# Altium integrated library ST Microcontroller 8-Bit.IntLib: 1326 symbols (part 22 of 45)
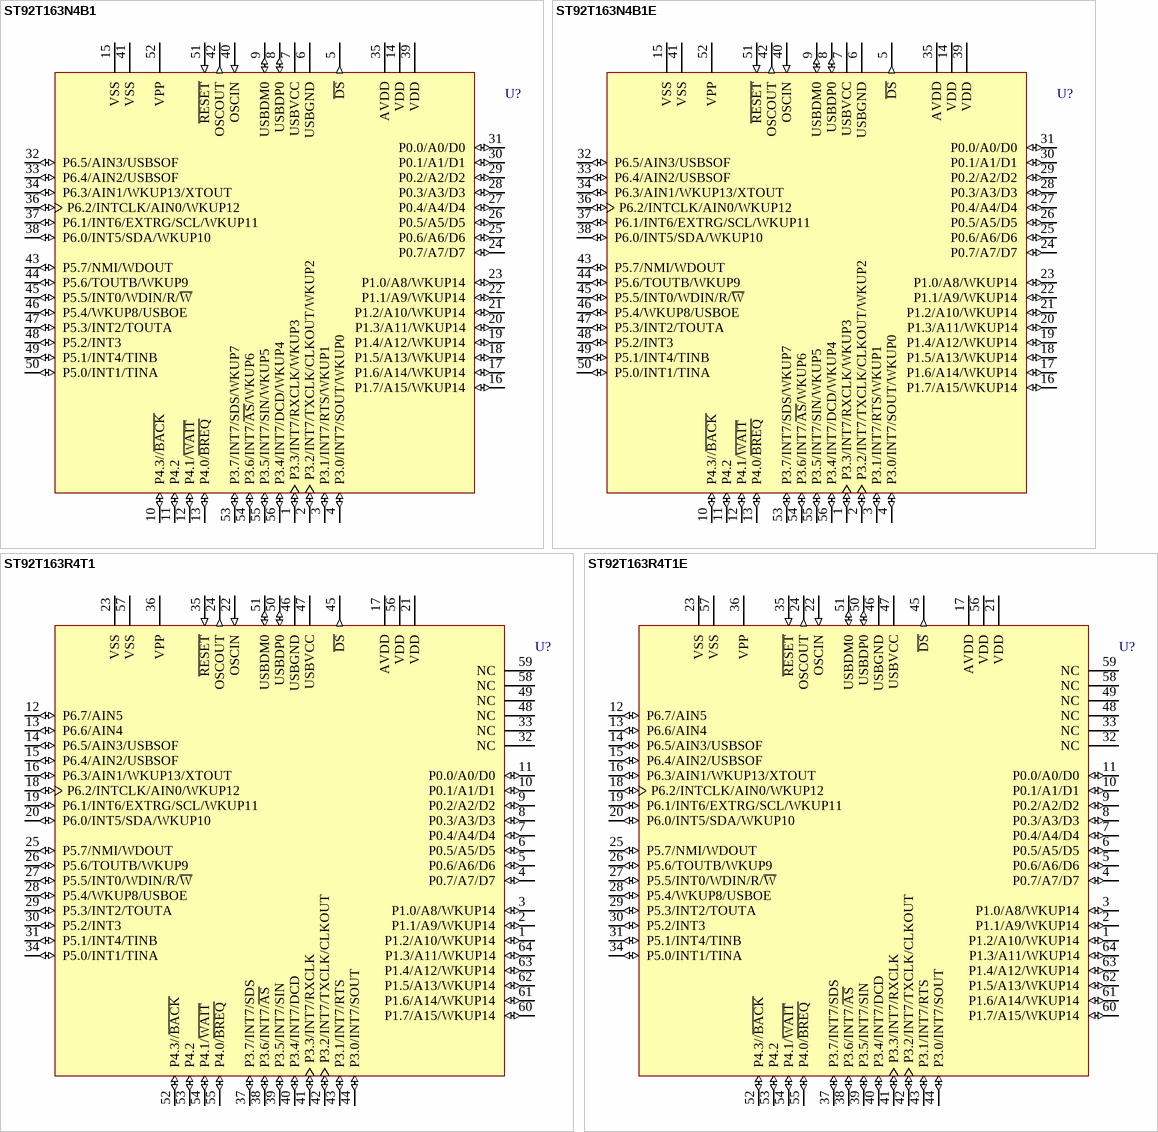
[diagram p188: symbols ST92T163N4B1 to ST92T163R4T1E]

## ST92T163R4T1
designator U?
8/16-Bit MCU with 20k OTP, 2k RAM, Full-Speed USB with 16 Endpoints, I²C, SCI and MFT, 64-Pin TQFP, Normal Mode; Published: 26-May-2004; LatestRevisionDate: 13-Apr-2006; LatestRevisionNote: IPC-7351 Footprint Added.; DatasheetVersion: rev2.4, Jan-2002; PackageVersion: rev2.4, Jan-2002; PackageReference: TQFP64-0.8; Publisher: Altium Limited; PackageDescription: 64-Pin Thin Quad Flat Pack 0.8 mm Pitch; ComponentLink1Description: Manufacturer Link; ComponentLink1URL: http://www.st.com/; ComponentLink2Description: Datasheet; ComponentLink2URL: http://www.st.com/stonline/products/literature/ds/5521/st92163r4.pdf
footprint TQFP64-0.8_N (Thin QFP, 64-Leads, Body 14x14mm, Pitch 0.8mm, IPC Medium Density)
footprint TQFP64-0.8_L (Thin QFP, 64-Leads, Body 14x14mm, Pitch 0.8mm, IPC High Density)
footprint TQFP64-0.8_M (Thin QFP, 64-Leads, Body 14x14mm, Pitch 0.8mm, IPC Low Density)
3D model ST92T163-TQFP64-0_8 (64-Pin Thin Quad Flat Pack 0.8 mm Pitch)
pins: 1 P1.2/A10/WKUP14 (io), 2 P1.1/A9/WKUP14 (io), 3 P1.0/A8/WKUP14 (io), 4 P0.7/A7/D7 (io), 5 P0.6/A6/D6 (io), 6 P0.5/A5/D5 (io), 7 P0.4/A4/D4 (io), 8 P0.3/A3/D3 (io), 9 P0.2/A2/D2 (io), 10 P0.1/A1/D1 (io), 11 P0.0/A0/D0 (io), 12 P6.7/AIN5 (io), 13 P6.6/AIN4 (io), 14 P6.5/AIN3/USBSOF (io), 15 P6.4/AIN2/USBSOF (io), 16 P6.3/AIN1/WKUP13/XTOUT (io), 17 AVDD (power), 18 P6.2/INTCLK/AIN0/WKUP12 (io), 19 P6.1/INT6/EXTRG/SCL/WKUP11 (io), 20 P6.0/INT5/SDA/WKUP10 (io), 21 VDD (power), 22 OSCIN (in), 23 VSS (power), 24 OSCOUT (out), 25 P5.7/NMI/WDOUT (io), 26 P5.6/TOUTB/WKUP9 (io), 27 P5.5/INT0/WDIN/R/~{W} (io), 28 P5.4/WKUP8/USBOE (io), 29 P5.3/INT2/TOUTA (io), 30 P5.2/INT3 (io), 31 P5.1/INT4/TINB (io), 32 NC, 33 NC, 34 P5.0/INT1/TINA (io), 35 ~{RESET} (in), 36 VPP (power), 37 P3.7/INT7/SDS (io), 38 P3.6/INT7/~{AS} (io), 39 P3.5/INT7/SIN (io), 40 P3.4/INT7/DCD (io), 41 P3.3/INT7/RXCLK (io), 42 P3.2/INT7/TXCLK/CLKOUT (io), 43 P3.1/INT7/RTS (io), 44 P3.0/INT7/SOUT (io), 45 ~{DS} (out), 46 USBGND (power), 47 USBVCC (power), 48 NC, 49 NC, 50 USBDP0 (io), 51 USBDM0 (io), 52 P4.3//~{BACK} (io), 53 P4.2 (io), 54 P4.1/~{WAIT} (io), 55 P4.0/~{BREQ} (io), 56 VDD (power), 57 VSS (power), 58 NC, 59 NC, 60 P1.7/A15/WKUP14 (io), 61 P1.6/A14/WKUP14 (io), 62 P1.5/A13/WKUP14 (io), 63 P1.4/A12/WKUP14 (io), 64 P1.3/A11/WKUP14 (io)

## ST92T163R4T1E
designator U?
8/16-Bit MCU with 20k OTP, 2k RAM, Full-Speed USB with 16 Endpoints, I²C, SCI and MFT, 64-Pin TQFP, Normal Mode; Published: 26-May-2004; LatestRevisionDate: 13-Apr-2006; LatestRevisionNote: IPC-7351 Footprint Added.; DatasheetVersion: rev2.4, Jan-2002; PackageVersion: rev2.4, Jan-2002; PackageReference: TQFP64-0.8; Publisher: Altium Limited; PackageDescription: 64-Pin Thin Quad Flat Pack 0.8 mm Pitch; ComponentLink1Description: Manufacturer Link; ComponentLink1URL: http://www.st.com/; ComponentLink2Description: Datasheet; ComponentLink2URL: http://www.st.com/stonline/products/literature/ds/5521/st92163r4.pdf
footprint TQFP64-0.8_N (Thin QFP, 64-Leads, Body 14x14mm, Pitch 0.8mm, IPC Medium Density)
footprint TQFP64-0.8_L (Thin QFP, 64-Leads, Body 14x14mm, Pitch 0.8mm, IPC High Density)
footprint TQFP64-0.8_M (Thin QFP, 64-Leads, Body 14x14mm, Pitch 0.8mm, IPC Low Density)
3D model ST92T163-TQFP64-0_8 (64-Pin Thin Quad Flat Pack 0.8 mm Pitch)
pins: 1 P1.2/A10/WKUP14 (io), 2 P1.1/A9/WKUP14 (io), 3 P1.0/A8/WKUP14 (io), 4 P0.7/A7/D7 (io), 5 P0.6/A6/D6 (io), 6 P0.5/A5/D5 (io), 7 P0.4/A4/D4 (io), 8 P0.3/A3/D3 (io), 9 P0.2/A2/D2 (io), 10 P0.1/A1/D1 (io), 11 P0.0/A0/D0 (io), 12 P6.7/AIN5 (io), 13 P6.6/AIN4 (io), 14 P6.5/AIN3/USBSOF (io), 15 P6.4/AIN2/USBSOF (io), 16 P6.3/AIN1/WKUP13/XTOUT (io), 17 AVDD (power), 18 P6.2/INTCLK/AIN0/WKUP12 (io), 19 P6.1/INT6/EXTRG/SCL/WKUP11 (io), 20 P6.0/INT5/SDA/WKUP10 (io), 21 VDD (power), 22 OSCIN (in), 23 VSS (power), 24 OSCOUT (out), 25 P5.7/NMI/WDOUT (io), 26 P5.6/TOUTB/WKUP9 (io), 27 P5.5/INT0/WDIN/R/~{W} (io), 28 P5.4/WKUP8/USBOE (io), 29 P5.3/INT2/TOUTA (io), 30 P5.2/INT3 (io), 31 P5.1/INT4/TINB (io), 32 NC, 33 NC, 34 P5.0/INT1/TINA (io), 35 ~{RESET} (in), 36 VPP (power), 37 P3.7/INT7/SDS (io), 38 P3.6/INT7/~{AS} (io), 39 P3.5/INT7/SIN (io), 40 P3.4/INT7/DCD (io), 41 P3.3/INT7/RXCLK (io), 42 P3.2/INT7/TXCLK/CLKOUT (io), 43 P3.1/INT7/RTS (io), 44 P3.0/INT7/SOUT (io), 45 ~{DS} (out), 46 USBGND (power), 47 USBVCC (power), 48 NC, 49 NC, 50 USBDP0 (io), 51 USBDM0 (io), 52 P4.3//~{BACK} (io), 53 P4.2 (io), 54 P4.1/~{WAIT} (io), 55 P4.0/~{BREQ} (io), 56 VDD (power), 57 VSS (power), 58 NC, 59 NC, 60 P1.7/A15/WKUP14 (io), 61 P1.6/A14/WKUP14 (io), 62 P1.5/A13/WKUP14 (io), 63 P1.4/A12/WKUP14 (io), 64 P1.3/A11/WKUP14 (io)

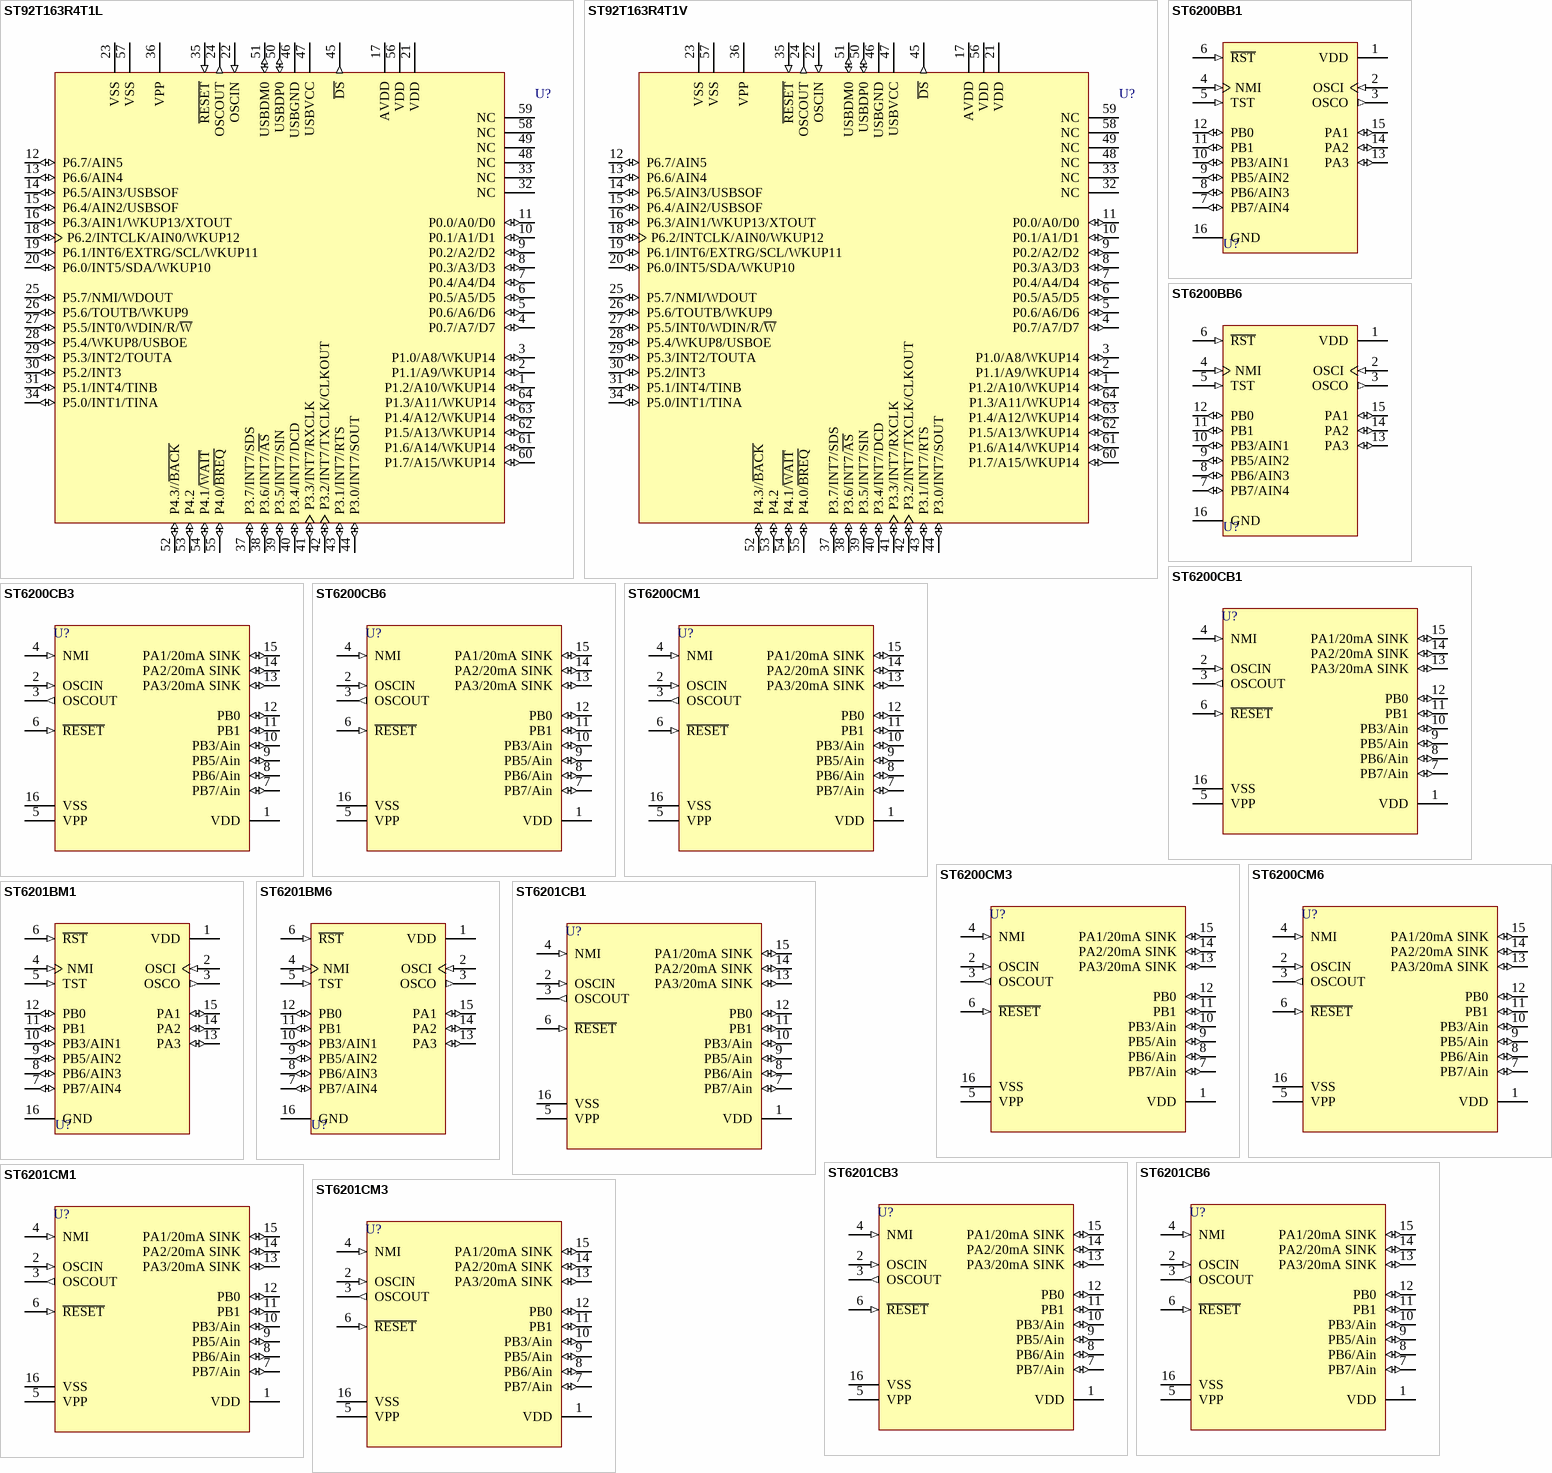
[diagram p77: symbols ST92T163R4T1L to ST6201CM3]

## ST92T163R4T1L
designator U?
8/16-Bit MCU with 20k OTP, 2k RAM, Full-Speed USB with 16 Endpoints, I²C, SCI and MFT, 64-Pin TQFP, Low Voltage Mode; Published: 26-May-2004; LatestRevisionDate: 13-Apr-2006; LatestRevisionNote: IPC-7351 Footprint Added.; DatasheetVersion: rev2.4, Jan-2002; PackageVersion: rev2.4, Jan-2002; PackageReference: TQFP64-0.8; Publisher: Altium Limited; PackageDescription: 64-Pin Thin Quad Flat Pack 0.8 mm Pitch; ComponentLink1Description: Manufacturer Link; ComponentLink1URL: http://www.st.com/; ComponentLink2Description: Datasheet; ComponentLink2URL: http://www.st.com/stonline/products/literature/ds/5521/st92163r4.pdf
footprint TQFP64-0.8_N (Thin QFP, 64-Leads, Body 14x14mm, Pitch 0.8mm, IPC Medium Density)
footprint TQFP64-0.8_L (Thin QFP, 64-Leads, Body 14x14mm, Pitch 0.8mm, IPC High Density)
footprint TQFP64-0.8_M (Thin QFP, 64-Leads, Body 14x14mm, Pitch 0.8mm, IPC Low Density)
3D model ST92T163-TQFP64-0_8 (64-Pin Thin Quad Flat Pack 0.8 mm Pitch)
pins: 1 P1.2/A10/WKUP14 (io), 2 P1.1/A9/WKUP14 (io), 3 P1.0/A8/WKUP14 (io), 4 P0.7/A7/D7 (io), 5 P0.6/A6/D6 (io), 6 P0.5/A5/D5 (io), 7 P0.4/A4/D4 (io), 8 P0.3/A3/D3 (io), 9 P0.2/A2/D2 (io), 10 P0.1/A1/D1 (io), 11 P0.0/A0/D0 (io), 12 P6.7/AIN5 (io), 13 P6.6/AIN4 (io), 14 P6.5/AIN3/USBSOF (io), 15 P6.4/AIN2/USBSOF (io), 16 P6.3/AIN1/WKUP13/XTOUT (io), 17 AVDD (power), 18 P6.2/INTCLK/AIN0/WKUP12 (io), 19 P6.1/INT6/EXTRG/SCL/WKUP11 (io), 20 P6.0/INT5/SDA/WKUP10 (io), 21 VDD (power), 22 OSCIN (in), 23 VSS (power), 24 OSCOUT (out), 25 P5.7/NMI/WDOUT (io), 26 P5.6/TOUTB/WKUP9 (io), 27 P5.5/INT0/WDIN/R/~{W} (io), 28 P5.4/WKUP8/USBOE (io), 29 P5.3/INT2/TOUTA (io), 30 P5.2/INT3 (io), 31 P5.1/INT4/TINB (io), 32 NC, 33 NC, 34 P5.0/INT1/TINA (io), 35 ~{RESET} (in), 36 VPP (power), 37 P3.7/INT7/SDS (io), 38 P3.6/INT7/~{AS} (io), 39 P3.5/INT7/SIN (io), 40 P3.4/INT7/DCD (io), 41 P3.3/INT7/RXCLK (io), 42 P3.2/INT7/TXCLK/CLKOUT (io), 43 P3.1/INT7/RTS (io), 44 P3.0/INT7/SOUT (io), 45 ~{DS} (out), 46 USBGND (power), 47 USBVCC (power), 48 NC, 49 NC, 50 USBDP0 (io), 51 USBDM0 (io), 52 P4.3//~{BACK} (io), 53 P4.2 (io), 54 P4.1/~{WAIT} (io), 55 P4.0/~{BREQ} (io), 56 VDD (power), 57 VSS (power), 58 NC, 59 NC, 60 P1.7/A15/WKUP14 (io), 61 P1.6/A14/WKUP14 (io), 62 P1.5/A13/WKUP14 (io), 63 P1.4/A12/WKUP14 (io), 64 P1.3/A11/WKUP14 (io)

## ST92T163R4T1V
designator U?
8/16-Bit MCU with 20k OTP, 2k RAM, Full-Speed USB with 16 Endpoints, I²C, SCI and MFT, 64-Pin TQFP, Low Voltage Mode; Published: 26-May-2004; LatestRevisionDate: 13-Apr-2006; LatestRevisionNote: IPC-7351 Footprint Added.; DatasheetVersion: rev2.4, Jan-2002; PackageVersion: rev2.4, Jan-2002; PackageReference: TQFP64-0.8; Publisher: Altium Limited; PackageDescription: 64-Pin Thin Quad Flat Pack 0.8 mm Pitch; ComponentLink1Description: Manufacturer Link; ComponentLink1URL: http://www.st.com/; ComponentLink2Description: Datasheet; ComponentLink2URL: http://www.st.com/stonline/products/literature/ds/5521/st92163r4.pdf
footprint TQFP64-0.8_N (Thin QFP, 64-Leads, Body 14x14mm, Pitch 0.8mm, IPC Medium Density)
footprint TQFP64-0.8_L (Thin QFP, 64-Leads, Body 14x14mm, Pitch 0.8mm, IPC High Density)
footprint TQFP64-0.8_M (Thin QFP, 64-Leads, Body 14x14mm, Pitch 0.8mm, IPC Low Density)
3D model ST92T163-TQFP64-0_8 (64-Pin Thin Quad Flat Pack 0.8 mm Pitch)
pins: 1 P1.2/A10/WKUP14 (io), 2 P1.1/A9/WKUP14 (io), 3 P1.0/A8/WKUP14 (io), 4 P0.7/A7/D7 (io), 5 P0.6/A6/D6 (io), 6 P0.5/A5/D5 (io), 7 P0.4/A4/D4 (io), 8 P0.3/A3/D3 (io), 9 P0.2/A2/D2 (io), 10 P0.1/A1/D1 (io), 11 P0.0/A0/D0 (io), 12 P6.7/AIN5 (io), 13 P6.6/AIN4 (io), 14 P6.5/AIN3/USBSOF (io), 15 P6.4/AIN2/USBSOF (io), 16 P6.3/AIN1/WKUP13/XTOUT (io), 17 AVDD (power), 18 P6.2/INTCLK/AIN0/WKUP12 (io), 19 P6.1/INT6/EXTRG/SCL/WKUP11 (io), 20 P6.0/INT5/SDA/WKUP10 (io), 21 VDD (power), 22 OSCIN (in), 23 VSS (power), 24 OSCOUT (out), 25 P5.7/NMI/WDOUT (io), 26 P5.6/TOUTB/WKUP9 (io), 27 P5.5/INT0/WDIN/R/~{W} (io), 28 P5.4/WKUP8/USBOE (io), 29 P5.3/INT2/TOUTA (io), 30 P5.2/INT3 (io), 31 P5.1/INT4/TINB (io), 32 NC, 33 NC, 34 P5.0/INT1/TINA (io), 35 ~{RESET} (in), 36 VPP (power), 37 P3.7/INT7/SDS (io), 38 P3.6/INT7/~{AS} (io), 39 P3.5/INT7/SIN (io), 40 P3.4/INT7/DCD (io), 41 P3.3/INT7/RXCLK (io), 42 P3.2/INT7/TXCLK/CLKOUT (io), 43 P3.1/INT7/RTS (io), 44 P3.0/INT7/SOUT (io), 45 ~{DS} (out), 46 USBGND (power), 47 USBVCC (power), 48 NC, 49 NC, 50 USBDP0 (io), 51 USBDM0 (io), 52 P4.3//~{BACK} (io), 53 P4.2 (io), 54 P4.1/~{WAIT} (io), 55 P4.0/~{BREQ} (io), 56 VDD (power), 57 VSS (power), 58 NC, 59 NC, 60 P1.7/A15/WKUP14 (io), 61 P1.6/A14/WKUP14 (io), 62 P1.5/A13/WKUP14 (io), 63 P1.4/A12/WKUP14 (io), 64 P1.3/A11/WKUP14 (io)

## ST6200BB1
designator U?
8-Bit HCMOS MCU with A/D Converter; Published: 24-Aug-2001; LatestRevisionDate: 06-Jun-2005; LatestRevisionNote: Stylized 3D Model Added.; DatasheetVersion: Oct-1996; PackageVersion: Apr-1996; PackageReference: DIP16; Publisher: Altium Limited; PackageDescription: DIP; 16 Leads; Row Spacing 7.62 mm; Pitch 2.54 mm; ComponentLink1Description: Manufacturer Link; ComponentLink1URL: http://www.st.com/
footprint DIP16 (DIP; 16 Leads; Row Spacing 7.62 mm; Pitch 2.54 mm)
3D model DIP16 (DIP; 16 Leads; Row Spacing 7.62 mm; Pitch 2.54 mm)
pins: 1 VDD (power), 2 OSCI (in), 3 OSCO (out), 4 NMI (in), 5 TST (in), 6 ~{RST} (in), 7 PB7/AIN4 (io), 8 PB6/AIN3 (io), 9 PB5/AIN2 (io), 10 PB3/AIN1 (io), 11 PB1 (io), 12 PB0 (io), 13 PA3 (io), 14 PA2 (io), 15 PA1 (io), 16 GND (power)

## ST6200BB6
designator U?
8-Bit HCMOS MCU with A/D Converter; Published: 24-Aug-2001; LatestRevisionDate: 06-Jun-2005; LatestRevisionNote: Stylized 3D Model Added.; DatasheetVersion: Oct-1996; PackageVersion: Apr-1996; PackageReference: DIP16; Publisher: Altium Limited; PackageDescription: DIP; 16 Leads; Row Spacing 7.62 mm; Pitch 2.54 mm; ComponentLink1Description: Manufacturer Link; ComponentLink1URL: http://www.st.com/
footprint DIP16 (DIP; 16 Leads; Row Spacing 7.62 mm; Pitch 2.54 mm)
3D model DIP16 (DIP; 16 Leads; Row Spacing 7.62 mm; Pitch 2.54 mm)
pins: 1 VDD (power), 2 OSCI (in), 3 OSCO (out), 4 NMI (in), 5 TST (in), 6 ~{RST} (in), 7 PB7/AIN4 (io), 8 PB6/AIN3 (io), 9 PB5/AIN2 (io), 10 PB3/AIN1 (io), 11 PB1 (io), 12 PB0 (io), 13 PA3 (io), 14 PA2 (io), 15 PA1 (io), 16 GND (power)

## ST6200CB1
designator U?
8-Bit ROM MCU with A/D Converter, Two Timers, Oscillator Safeguard and Safe Reset, 16-Pin PDIP, Standard; Published: 26-May-2004; LatestRevisionDate: 06-Jun-2005; LatestRevisionNote: Stylized 3D Model Added.; DatasheetVersion: rev3.3, Oct-2003; PackageVersion: Dec-2003; PackageReference: PDIP16; Publisher: Altium Limited; PackageDescription: DIP; 16 Leads; Row Spacing 7.62 mm; Pitch 2.54 mm; ComponentLink1Description: Manufacturer Link; ComponentLink1URL: http://www.st.com/; ComponentLink2Description: Datasheet; ComponentLink2URL: http://www.st.com/stonline/products/literature/ds/4563/st6200c.pdf
footprint PDIP16 (DIP; 16 Leads; Row Spacing 7.62 mm; Pitch 2.54 mm)
3D model PDIP16 (DIP; 16 Leads; Row Spacing 7.62 mm; Pitch 2.54 mm)
pins: 1 VDD (power), 2 OSCIN (in), 3 OSCOUT (out), 4 NMI (in), 5 VPP (power), 6 ~{RESET} (in), 7 PB7/Ain (io), 8 PB6/Ain (io), 9 PB5/Ain (io), 10 PB3/Ain (io), 11 PB1 (io), 12 PB0 (io), 13 PA3/20mA SINK (io), 14 PA2/20mA SINK (io), 15 PA1/20mA SINK (io), 16 VSS (power)

## ST6200CB3
designator U?
8-Bit ROM MCU with A/D Converter, Two Timers, Oscillator Safeguard and Safe Reset, 16-Pin PDIP, Automotive; Published: 26-May-2004; LatestRevisionDate: 06-Jun-2005; LatestRevisionNote: Stylized 3D Model Added.; DatasheetVersion: rev3.3, Oct-2003; PackageVersion: Dec-2003; PackageReference: PDIP16; Publisher: Altium Limited; PackageDescription: DIP; 16 Leads; Row Spacing 7.62 mm; Pitch 2.54 mm; ComponentLink1Description: Manufacturer Link; ComponentLink1URL: http://www.st.com/; ComponentLink2Description: Datasheet; ComponentLink2URL: http://www.st.com/stonline/products/literature/ds/4563/st6200c.pdf
footprint PDIP16 (DIP; 16 Leads; Row Spacing 7.62 mm; Pitch 2.54 mm)
3D model PDIP16 (DIP; 16 Leads; Row Spacing 7.62 mm; Pitch 2.54 mm)
pins: 1 VDD (power), 2 OSCIN (in), 3 OSCOUT (out), 4 NMI (in), 5 VPP (power), 6 ~{RESET} (in), 7 PB7/Ain (io), 8 PB6/Ain (io), 9 PB5/Ain (io), 10 PB3/Ain (io), 11 PB1 (io), 12 PB0 (io), 13 PA3/20mA SINK (io), 14 PA2/20mA SINK (io), 15 PA1/20mA SINK (io), 16 VSS (power)

## ST6200CB6
designator U?
8-Bit ROM MCU with A/D Converter, Two Timers, Oscillator Safeguard and Safe Reset, 16-Pin PDIP, Industrial; Published: 26-May-2004; LatestRevisionDate: 06-Jun-2005; LatestRevisionNote: Stylized 3D Model Added.; DatasheetVersion: rev3.3, Oct-2003; PackageVersion: Dec-2003; PackageReference: PDIP16; Publisher: Altium Limited; PackageDescription: DIP; 16 Leads; Row Spacing 7.62 mm; Pitch 2.54 mm; ComponentLink1Description: Manufacturer Link; ComponentLink1URL: http://www.st.com/; ComponentLink2Description: Datasheet; ComponentLink2URL: http://www.st.com/stonline/products/literature/ds/4563/st6200c.pdf
footprint PDIP16 (DIP; 16 Leads; Row Spacing 7.62 mm; Pitch 2.54 mm)
3D model PDIP16 (DIP; 16 Leads; Row Spacing 7.62 mm; Pitch 2.54 mm)
pins: 1 VDD (power), 2 OSCIN (in), 3 OSCOUT (out), 4 NMI (in), 5 VPP (power), 6 ~{RESET} (in), 7 PB7/Ain (io), 8 PB6/Ain (io), 9 PB5/Ain (io), 10 PB3/Ain (io), 11 PB1 (io), 12 PB0 (io), 13 PA3/20mA SINK (io), 14 PA2/20mA SINK (io), 15 PA1/20mA SINK (io), 16 VSS (power)

## ST6200CM1
designator U?
8-Bit ROM MCU with A/D Converter, Two Timers, Oscillator Safeguard and Safe Reset, 16-Pin SOIC, Standard; Published: 26-May-2004; LatestRevisionDate: 13-Apr-2006; LatestRevisionNote: IPC-7351 Footprint Added.; DatasheetVersion: rev3.3, Oct-2003; PackageVersion: Apr-1998; PackageReference: SO16W; Publisher: Altium Limited; PackageDescription: 16-Pin Small Outline Integrated Circuit 1.27 mm Pitch; Code_JEDEC: MS-013-AA; Code_IPC: SOIC127P1030-16; ComponentLink1Description: Manufacturer Link; ComponentLink1URL: http://www.st.com/; ComponentLink2Description: Datasheet; ComponentLink2URL: http://www.st.com/stonline/products/literature/ds/4563/st6200c.pdf
footprint SO16W_N (SOIC, 16-Leads, Body 10.3x7.5mm, Pitch 1.27mm, IPC Medium Density)
footprint SO16W_L (SOIC, 16-Leads, Body 10.3x7.5mm, Pitch 1.27mm, IPC High Density)
footprint SO16W_M (SOIC, 16-Leads, Body 10.3x7.5mm, Pitch 1.27mm, IPC Low Density)
3D model SO16W (16-Pin Small Outline Integrated Circuit 1.27 mm Pitch)
pins: 1 VDD (power), 2 OSCIN (in), 3 OSCOUT (out), 4 NMI (in), 5 VPP (power), 6 ~{RESET} (in), 7 PB7/Ain (io), 8 PB6/Ain (io), 9 PB5/Ain (io), 10 PB3/Ain (io), 11 PB1 (io), 12 PB0 (io), 13 PA3/20mA SINK (io), 14 PA2/20mA SINK (io), 15 PA1/20mA SINK (io), 16 VSS (power)

## ST6200CM3
designator U?
8-Bit ROM MCU with A/D Converter, Two Timers, Oscillator Safeguard and Safe Reset, 16-Pin SOIC, Automotive; Published: 26-May-2004; LatestRevisionDate: 13-Apr-2006; LatestRevisionNote: IPC-7351 Footprint Added.; DatasheetVersion: rev3.3, Oct-2003; PackageVersion: Apr-1998; PackageReference: SO16W; Publisher: Altium Limited; PackageDescription: 16-Pin Small Outline Integrated Circuit 1.27 mm Pitch; Code_JEDEC: MS-013-AA; Code_IPC: SOIC127P1030-16; ComponentLink1Description: Manufacturer Link; ComponentLink1URL: http://www.st.com/; ComponentLink2Description: Datasheet; ComponentLink2URL: http://www.st.com/stonline/products/literature/ds/4563/st6200c.pdf
footprint SO16W_N (SOIC, 16-Leads, Body 10.3x7.5mm, Pitch 1.27mm, IPC Medium Density)
footprint SO16W_L (SOIC, 16-Leads, Body 10.3x7.5mm, Pitch 1.27mm, IPC High Density)
footprint SO16W_M (SOIC, 16-Leads, Body 10.3x7.5mm, Pitch 1.27mm, IPC Low Density)
3D model SO16W (16-Pin Small Outline Integrated Circuit 1.27 mm Pitch)
pins: 1 VDD (power), 2 OSCIN (in), 3 OSCOUT (out), 4 NMI (in), 5 VPP (power), 6 ~{RESET} (in), 7 PB7/Ain (io), 8 PB6/Ain (io), 9 PB5/Ain (io), 10 PB3/Ain (io), 11 PB1 (io), 12 PB0 (io), 13 PA3/20mA SINK (io), 14 PA2/20mA SINK (io), 15 PA1/20mA SINK (io), 16 VSS (power)

## ST6200CM6
designator U?
8-Bit ROM MCU with A/D Converter, Two Timers, Oscillator Safeguard and Safe Reset, 16-Pin SOIC, Industrial; Published: 26-May-2004; LatestRevisionDate: 13-Apr-2006; LatestRevisionNote: IPC-7351 Footprint Added.; DatasheetVersion: rev3.3, Oct-2003; PackageVersion: Apr-1998; PackageReference: SO16W; Publisher: Altium Limited; PackageDescription: 16-Pin Small Outline Integrated Circuit 1.27 mm Pitch; Code_JEDEC: MS-013-AA; Code_IPC: SOIC127P1030-16; ComponentLink1Description: Manufacturer Link; ComponentLink1URL: http://www.st.com/; ComponentLink2Description: Datasheet; ComponentLink2URL: http://www.st.com/stonline/products/literature/ds/4563/st6200c.pdf
footprint SO16W_N (SOIC, 16-Leads, Body 10.3x7.5mm, Pitch 1.27mm, IPC Medium Density)
footprint SO16W_L (SOIC, 16-Leads, Body 10.3x7.5mm, Pitch 1.27mm, IPC High Density)
footprint SO16W_M (SOIC, 16-Leads, Body 10.3x7.5mm, Pitch 1.27mm, IPC Low Density)
3D model SO16W (16-Pin Small Outline Integrated Circuit 1.27 mm Pitch)
pins: 1 VDD (power), 2 OSCIN (in), 3 OSCOUT (out), 4 NMI (in), 5 VPP (power), 6 ~{RESET} (in), 7 PB7/Ain (io), 8 PB6/Ain (io), 9 PB5/Ain (io), 10 PB3/Ain (io), 11 PB1 (io), 12 PB0 (io), 13 PA3/20mA SINK (io), 14 PA2/20mA SINK (io), 15 PA1/20mA SINK (io), 16 VSS (power)

## ST6201BM1
designator U?
8-Bit HCMOS MCU with A/D Converter; Published: 24-Aug-2001; LatestRevisionDate: 13-Apr-2006; LatestRevisionNote: IPC-7351 Footprint Added.; DatasheetVersion: Oct-1996; PackageVersion: Apr-1998; PackageReference: SO16W; Publisher: Altium Limited; PackageDescription: 16-Pin Small Outline Integrated Circuit 1.27 mm Pitch; Code_JEDEC: MS-013-AA; Code_IPC: SOIC127P1030-16; ComponentLink1Description: Manufacturer Link; ComponentLink1URL: http://www.st.com/
footprint SO16W_N (SOIC, 16-Leads, Body 10.3x7.5mm, Pitch 1.27mm, IPC Medium Density)
footprint SO16W_L (SOIC, 16-Leads, Body 10.3x7.5mm, Pitch 1.27mm, IPC High Density)
footprint SO16W_M (SOIC, 16-Leads, Body 10.3x7.5mm, Pitch 1.27mm, IPC Low Density)
3D model SO16W (16-Pin Small Outline Integrated Circuit 1.27 mm Pitch)
pins: 1 VDD (power), 2 OSCI (in), 3 OSCO (out), 4 NMI (in), 5 TST (in), 6 ~{RST} (in), 7 PB7/AIN4 (io), 8 PB6/AIN3 (io), 9 PB5/AIN2 (io), 10 PB3/AIN1 (io), 11 PB1 (io), 12 PB0 (io), 13 PA3 (io), 14 PA2 (io), 15 PA1 (io), 16 GND (power)

## ST6201BM6
designator U?
8-Bit HCMOS MCU with A/D Converter; Published: 24-Aug-2001; LatestRevisionDate: 13-Apr-2006; LatestRevisionNote: IPC-7351 Footprint Added.; DatasheetVersion: Oct-1996; PackageVersion: Apr-1998; PackageReference: SO16W; Publisher: Altium Limited; PackageDescription: 16-Pin Small Outline Integrated Circuit 1.27 mm Pitch; Code_JEDEC: MS-013-AA; Code_IPC: SOIC127P1030-16; ComponentLink1Description: Manufacturer Link; ComponentLink1URL: http://www.st.com/
footprint SO16W_N (SOIC, 16-Leads, Body 10.3x7.5mm, Pitch 1.27mm, IPC Medium Density)
footprint SO16W_L (SOIC, 16-Leads, Body 10.3x7.5mm, Pitch 1.27mm, IPC High Density)
footprint SO16W_M (SOIC, 16-Leads, Body 10.3x7.5mm, Pitch 1.27mm, IPC Low Density)
3D model SO16W (16-Pin Small Outline Integrated Circuit 1.27 mm Pitch)
pins: 1 VDD (power), 2 OSCI (in), 3 OSCO (out), 4 NMI (in), 5 TST (in), 6 ~{RST} (in), 7 PB7/AIN4 (io), 8 PB6/AIN3 (io), 9 PB5/AIN2 (io), 10 PB3/AIN1 (io), 11 PB1 (io), 12 PB0 (io), 13 PA3 (io), 14 PA2 (io), 15 PA1 (io), 16 GND (power)

## ST6201CB1
designator U?
8-Bit ROM MCU with A/D Converter, Two Timers, Oscillator Safeguard and Safe Reset, 16-Pin PDIP, Standard; Published: 26-May-2004; LatestRevisionDate: 06-Jun-2005; LatestRevisionNote: Stylized 3D Model Added.; DatasheetVersion: rev3.3, Oct-2003; PackageVersion: Dec-2003; PackageReference: PDIP16; Publisher: Altium Limited; PackageDescription: DIP; 16 Leads; Row Spacing 7.62 mm; Pitch 2.54 mm; ComponentLink1Description: Manufacturer Link; ComponentLink1URL: http://www.st.com/; ComponentLink2Description: Datasheet; ComponentLink2URL: http://www.st.com/stonline/products/literature/ds/4563/st6201c.pdf
footprint PDIP16 (DIP; 16 Leads; Row Spacing 7.62 mm; Pitch 2.54 mm)
3D model PDIP16 (DIP; 16 Leads; Row Spacing 7.62 mm; Pitch 2.54 mm)
pins: 1 VDD (power), 2 OSCIN (in), 3 OSCOUT (out), 4 NMI (in), 5 VPP (power), 6 ~{RESET} (in), 7 PB7/Ain (io), 8 PB6/Ain (io), 9 PB5/Ain (io), 10 PB3/Ain (io), 11 PB1 (io), 12 PB0 (io), 13 PA3/20mA SINK (io), 14 PA2/20mA SINK (io), 15 PA1/20mA SINK (io), 16 VSS (power)

## ST6201CB3
designator U?
8-Bit ROM MCU with A/D Converter, Two Timers, Oscillator Safeguard and Safe Reset, 16-Pin PDIP, Automotive; Published: 26-May-2004; LatestRevisionDate: 06-Jun-2005; LatestRevisionNote: Stylized 3D Model Added.; DatasheetVersion: rev3.3, Oct-2003; PackageVersion: Dec-2003; PackageReference: PDIP16; Publisher: Altium Limited; PackageDescription: DIP; 16 Leads; Row Spacing 7.62 mm; Pitch 2.54 mm; ComponentLink1Description: Manufacturer Link; ComponentLink1URL: http://www.st.com/; ComponentLink2Description: Datasheet; ComponentLink2URL: http://www.st.com/stonline/products/literature/ds/4563/st6201c.pdf
footprint PDIP16 (DIP; 16 Leads; Row Spacing 7.62 mm; Pitch 2.54 mm)
3D model PDIP16 (DIP; 16 Leads; Row Spacing 7.62 mm; Pitch 2.54 mm)
pins: 1 VDD (power), 2 OSCIN (in), 3 OSCOUT (out), 4 NMI (in), 5 VPP (power), 6 ~{RESET} (in), 7 PB7/Ain (io), 8 PB6/Ain (io), 9 PB5/Ain (io), 10 PB3/Ain (io), 11 PB1 (io), 12 PB0 (io), 13 PA3/20mA SINK (io), 14 PA2/20mA SINK (io), 15 PA1/20mA SINK (io), 16 VSS (power)

## ST6201CB6
designator U?
8-Bit ROM MCU with A/D Converter, Two Timers, Oscillator Safeguard and Safe Reset, 16-Pin PDIP, Industrial; Published: 26-May-2004; LatestRevisionDate: 06-Jun-2005; LatestRevisionNote: Stylized 3D Model Added.; DatasheetVersion: rev3.3, Oct-2003; PackageVersion: Dec-2003; PackageReference: PDIP16; Publisher: Altium Limited; PackageDescription: DIP; 16 Leads; Row Spacing 7.62 mm; Pitch 2.54 mm; ComponentLink1Description: Manufacturer Link; ComponentLink1URL: http://www.st.com/; ComponentLink2Description: Datasheet; ComponentLink2URL: http://www.st.com/stonline/products/literature/ds/4563/st6201c.pdf
footprint PDIP16 (DIP; 16 Leads; Row Spacing 7.62 mm; Pitch 2.54 mm)
3D model PDIP16 (DIP; 16 Leads; Row Spacing 7.62 mm; Pitch 2.54 mm)
pins: 1 VDD (power), 2 OSCIN (in), 3 OSCOUT (out), 4 NMI (in), 5 VPP (power), 6 ~{RESET} (in), 7 PB7/Ain (io), 8 PB6/Ain (io), 9 PB5/Ain (io), 10 PB3/Ain (io), 11 PB1 (io), 12 PB0 (io), 13 PA3/20mA SINK (io), 14 PA2/20mA SINK (io), 15 PA1/20mA SINK (io), 16 VSS (power)

## ST6201CM1
designator U?
8-Bit ROM MCU with A/D Converter, Two Timers, Oscillator Safeguard and Safe Reset, 16-Pin SOIC, Standard; Published: 26-May-2004; LatestRevisionDate: 13-Apr-2006; LatestRevisionNote: IPC-7351 Footprint Added.; DatasheetVersion: rev3.3, Oct-2003; PackageVersion: Apr-1998; PackageReference: SO16W; Publisher: Altium Limited; PackageDescription: 16-Pin Small Outline Integrated Circuit 1.27 mm Pitch; Code_JEDEC: MS-013-AA; Code_IPC: SOIC127P1030-16; ComponentLink1Description: Manufacturer Link; ComponentLink1URL: http://www.st.com/; ComponentLink2Description: Datasheet; ComponentLink2URL: http://www.st.com/stonline/products/literature/ds/4563/st6201c.pdf
footprint SO16W_N (SOIC, 16-Leads, Body 10.3x7.5mm, Pitch 1.27mm, IPC Medium Density)
footprint SO16W_L (SOIC, 16-Leads, Body 10.3x7.5mm, Pitch 1.27mm, IPC High Density)
footprint SO16W_M (SOIC, 16-Leads, Body 10.3x7.5mm, Pitch 1.27mm, IPC Low Density)
3D model SO16W (16-Pin Small Outline Integrated Circuit 1.27 mm Pitch)
pins: 1 VDD (power), 2 OSCIN (in), 3 OSCOUT (out), 4 NMI (in), 5 VPP (power), 6 ~{RESET} (in), 7 PB7/Ain (io), 8 PB6/Ain (io), 9 PB5/Ain (io), 10 PB3/Ain (io), 11 PB1 (io), 12 PB0 (io), 13 PA3/20mA SINK (io), 14 PA2/20mA SINK (io), 15 PA1/20mA SINK (io), 16 VSS (power)

## ST6201CM3
designator U?
8-Bit ROM MCU with A/D Converter, Two Timers, Oscillator Safeguard and Safe Reset, 16-Pin SOIC, Automotive; Published: 26-May-2004; LatestRevisionDate: 13-Apr-2006; LatestRevisionNote: IPC-7351 Footprint Added.; DatasheetVersion: rev3.3, Oct-2003; PackageVersion: Apr-1998; PackageReference: SO16W; Publisher: Altium Limited; PackageDescription: 16-Pin Small Outline Integrated Circuit 1.27 mm Pitch; Code_JEDEC: MS-013-AA; Code_IPC: SOIC127P1030-16; ComponentLink1Description: Manufacturer Link; ComponentLink1URL: http://www.st.com/; ComponentLink2Description: Datasheet; ComponentLink2URL: http://www.st.com/stonline/products/literature/ds/4563/st6201c.pdf
footprint SO16W_N (SOIC, 16-Leads, Body 10.3x7.5mm, Pitch 1.27mm, IPC Medium Density)
footprint SO16W_L (SOIC, 16-Leads, Body 10.3x7.5mm, Pitch 1.27mm, IPC High Density)
footprint SO16W_M (SOIC, 16-Leads, Body 10.3x7.5mm, Pitch 1.27mm, IPC Low Density)
3D model SO16W (16-Pin Small Outline Integrated Circuit 1.27 mm Pitch)
pins: 1 VDD (power), 2 OSCIN (in), 3 OSCOUT (out), 4 NMI (in), 5 VPP (power), 6 ~{RESET} (in), 7 PB7/Ain (io), 8 PB6/Ain (io), 9 PB5/Ain (io), 10 PB3/Ain (io), 11 PB1 (io), 12 PB0 (io), 13 PA3/20mA SINK (io), 14 PA2/20mA SINK (io), 15 PA1/20mA SINK (io), 16 VSS (power)

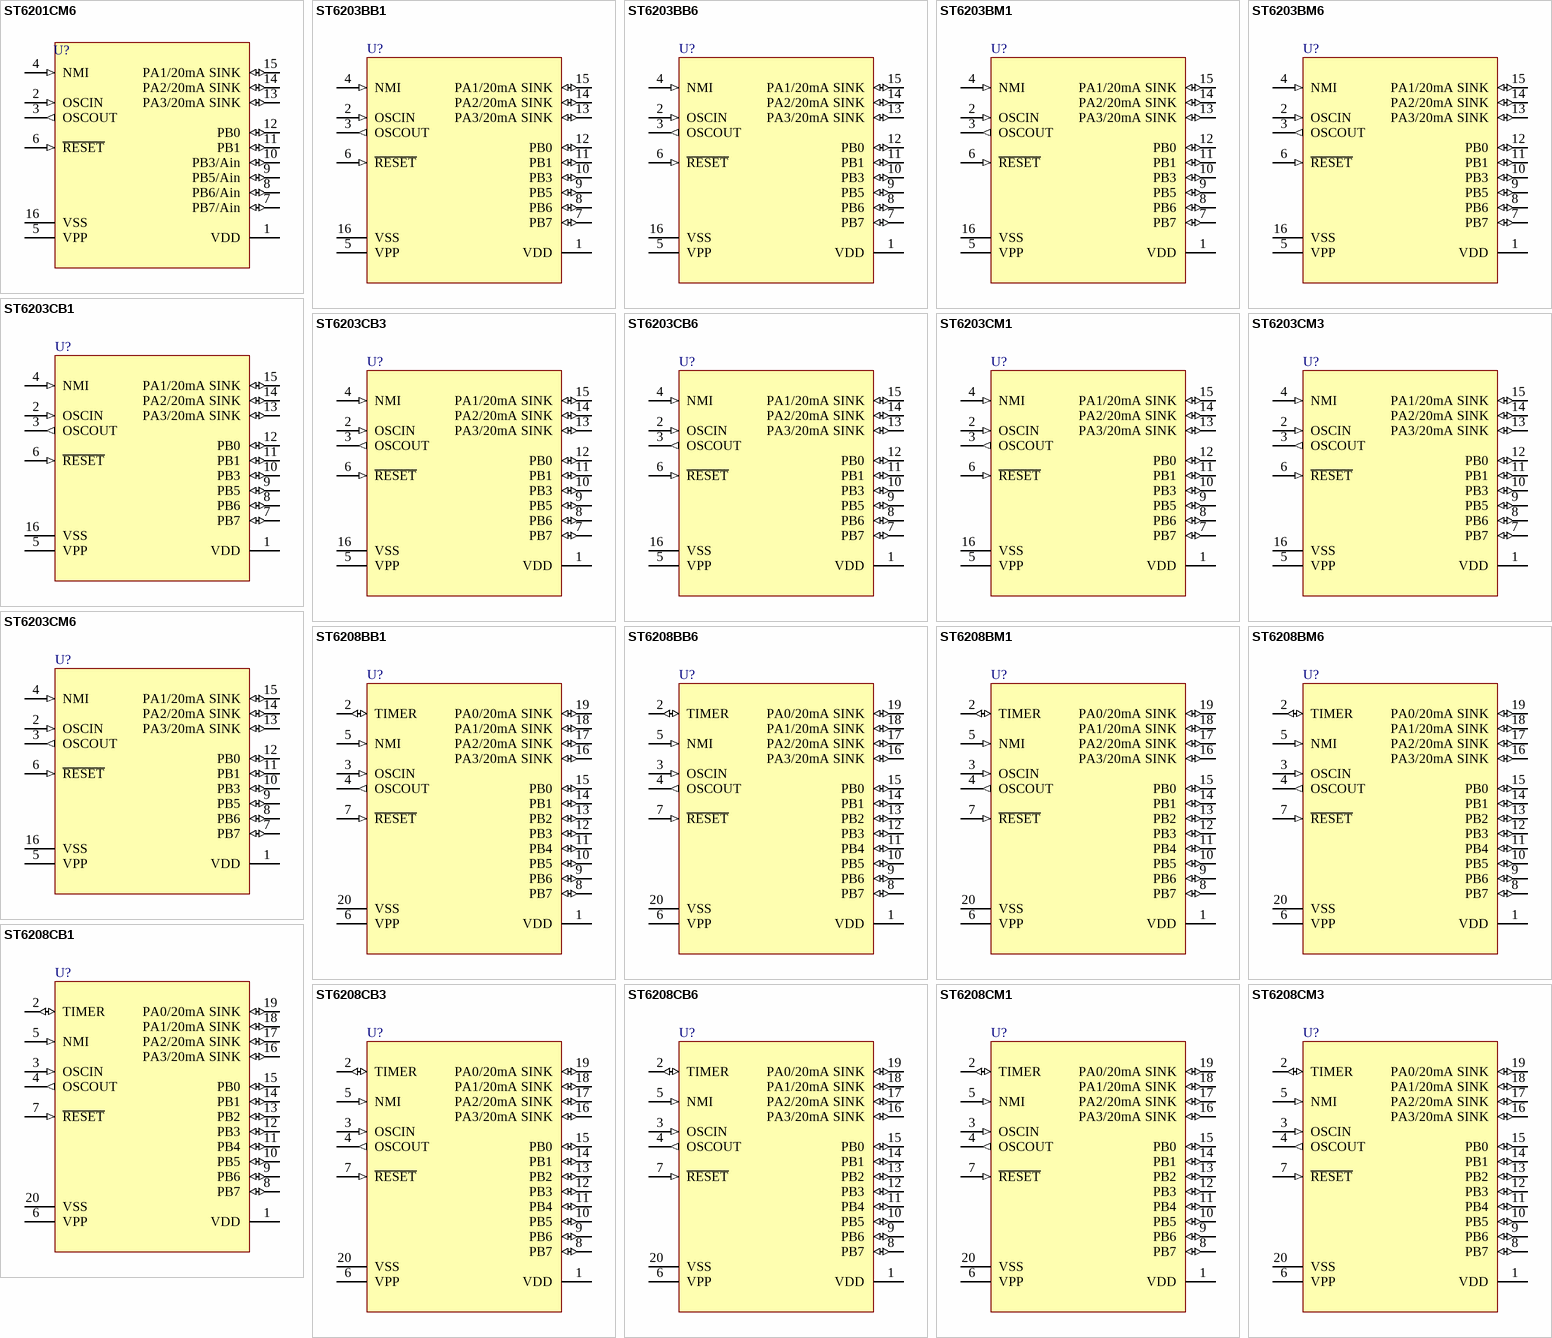
[diagram p78: symbols ST6201CM6 to ST6208CM3]

## ST6201CM6
designator U?
8-Bit ROM MCU with A/D Converter, Two Timers, Oscillator Safeguard and Safe Reset, 16-Pin SOIC, Industrial; Published: 26-May-2004; LatestRevisionDate: 13-Apr-2006; LatestRevisionNote: IPC-7351 Footprint Added.; DatasheetVersion: rev3.3, Oct-2003; PackageVersion: Apr-1998; PackageReference: SO16W; Publisher: Altium Limited; PackageDescription: 16-Pin Small Outline Integrated Circuit 1.27 mm Pitch; Code_JEDEC: MS-013-AA; Code_IPC: SOIC127P1030-16; ComponentLink1Description: Manufacturer Link; ComponentLink1URL: http://www.st.com/; ComponentLink2Description: Datasheet; ComponentLink2URL: http://www.st.com/stonline/products/literature/ds/4563/st6201c.pdf
footprint SO16W_N (SOIC, 16-Leads, Body 10.3x7.5mm, Pitch 1.27mm, IPC Medium Density)
footprint SO16W_L (SOIC, 16-Leads, Body 10.3x7.5mm, Pitch 1.27mm, IPC High Density)
footprint SO16W_M (SOIC, 16-Leads, Body 10.3x7.5mm, Pitch 1.27mm, IPC Low Density)
3D model SO16W (16-Pin Small Outline Integrated Circuit 1.27 mm Pitch)
pins: 1 VDD (power), 2 OSCIN (in), 3 OSCOUT (out), 4 NMI (in), 5 VPP (power), 6 ~{RESET} (in), 7 PB7/Ain (io), 8 PB6/Ain (io), 9 PB5/Ain (io), 10 PB3/Ain (io), 11 PB1 (io), 12 PB0 (io), 13 PA3/20mA SINK (io), 14 PA2/20mA SINK (io), 15 PA1/20mA SINK (io), 16 VSS (power)

## ST6203BB1
designator U?
8-Bit HCMOS MCU; Published: 24-Aug-2001; LatestRevisionDate: 06-Jun-2005; LatestRevisionNote: Stylized 3D Model Added.; DatasheetVersion: Oct-1996; PackageVersion: Apr-1996; PackageReference: DIP16; Publisher: Altium Limited; PackageDescription: DIP; 16 Leads; Row Spacing 7.62 mm; Pitch 2.54 mm; ComponentLink1Description: Manufacturer Link; ComponentLink1URL: http://www.st.com/
footprint DIP16 (DIP; 16 Leads; Row Spacing 7.62 mm; Pitch 2.54 mm)
3D model DIP16 (DIP; 16 Leads; Row Spacing 7.62 mm; Pitch 2.54 mm)
pins: 1 VDD (power), 2 OSCIN (in), 3 OSCOUT (out), 4 NMI (in), 5 VPP (power), 6 ~{RESET} (in), 7 PB7 (io), 8 PB6 (io), 9 PB5 (io), 10 PB3 (io), 11 PB1 (io), 12 PB0 (io), 13 PA3/20mA SINK (io), 14 PA2/20mA SINK (io), 15 PA1/20mA SINK (io), 16 VSS (power)

## ST6203BB6
designator U?
8-Bit HCMOS MCU; Published: 24-Aug-2001; LatestRevisionDate: 06-Jun-2005; LatestRevisionNote: Stylized 3D Model Added.; DatasheetVersion: Oct-1996; PackageVersion: Apr-1996; PackageReference: DIP16; Publisher: Altium Limited; PackageDescription: DIP; 16 Leads; Row Spacing 7.62 mm; Pitch 2.54 mm; ComponentLink1Description: Manufacturer Link; ComponentLink1URL: http://www.st.com/
footprint DIP16 (DIP; 16 Leads; Row Spacing 7.62 mm; Pitch 2.54 mm)
3D model DIP16 (DIP; 16 Leads; Row Spacing 7.62 mm; Pitch 2.54 mm)
pins: 1 VDD (power), 2 OSCIN (in), 3 OSCOUT (out), 4 NMI (in), 5 VPP (power), 6 ~{RESET} (in), 7 PB7 (io), 8 PB6 (io), 9 PB5 (io), 10 PB3 (io), 11 PB1 (io), 12 PB0 (io), 13 PA3/20mA SINK (io), 14 PA2/20mA SINK (io), 15 PA1/20mA SINK (io), 16 VSS (power)

## ST6203BM1
designator U?
8-Bit HCMOS MCU; Published: 24-Aug-2001; LatestRevisionDate: 13-Apr-2006; LatestRevisionNote: IPC-7351 Footprint Added.; DatasheetVersion: Oct-1996; PackageVersion: Apr-1998; PackageReference: SO16W; Publisher: Altium Limited; PackageDescription: 16-Pin Small Outline Integrated Circuit 1.27 mm Pitch; Code_JEDEC: MS-013-AA; Code_IPC: SOIC127P1030-16; ComponentLink1Description: Manufacturer Link; ComponentLink1URL: http://www.st.com/
footprint SO16W_N (SOIC, 16-Leads, Body 10.3x7.5mm, Pitch 1.27mm, IPC Medium Density)
footprint SO16W_L (SOIC, 16-Leads, Body 10.3x7.5mm, Pitch 1.27mm, IPC High Density)
footprint SO16W_M (SOIC, 16-Leads, Body 10.3x7.5mm, Pitch 1.27mm, IPC Low Density)
3D model SO16W (16-Pin Small Outline Integrated Circuit 1.27 mm Pitch)
pins: 1 VDD (power), 2 OSCIN (in), 3 OSCOUT (out), 4 NMI (in), 5 VPP (power), 6 ~{RESET} (in), 7 PB7 (io), 8 PB6 (io), 9 PB5 (io), 10 PB3 (io), 11 PB1 (io), 12 PB0 (io), 13 PA3/20mA SINK (io), 14 PA2/20mA SINK (io), 15 PA1/20mA SINK (io), 16 VSS (power)

## ST6203BM6
designator U?
8-Bit HCMOS MCU; Published: 24-Aug-2001; LatestRevisionDate: 13-Apr-2006; LatestRevisionNote: IPC-7351 Footprint Added.; DatasheetVersion: Oct-1996; PackageVersion: Apr-1998; PackageReference: SO16W; Publisher: Altium Limited; PackageDescription: 16-Pin Small Outline Integrated Circuit 1.27 mm Pitch; Code_JEDEC: MS-013-AA; Code_IPC: SOIC127P1030-16; ComponentLink1Description: Manufacturer Link; ComponentLink1URL: http://www.st.com/
footprint SO16W_N (SOIC, 16-Leads, Body 10.3x7.5mm, Pitch 1.27mm, IPC Medium Density)
footprint SO16W_L (SOIC, 16-Leads, Body 10.3x7.5mm, Pitch 1.27mm, IPC High Density)
footprint SO16W_M (SOIC, 16-Leads, Body 10.3x7.5mm, Pitch 1.27mm, IPC Low Density)
3D model SO16W (16-Pin Small Outline Integrated Circuit 1.27 mm Pitch)
pins: 1 VDD (power), 2 OSCIN (in), 3 OSCOUT (out), 4 NMI (in), 5 VPP (power), 6 ~{RESET} (in), 7 PB7 (io), 8 PB6 (io), 9 PB5 (io), 10 PB3 (io), 11 PB1 (io), 12 PB0 (io), 13 PA3/20mA SINK (io), 14 PA2/20mA SINK (io), 15 PA1/20mA SINK (io), 16 VSS (power)

## ST6203CB1
designator U?
8-Bit ROM MCU with A/D Converter, Two Timers, Oscillator Safeguard and Safe Reset, 16-Pin PDIP, Standard; Published: 26-May-2004; LatestRevisionDate: 06-Jun-2005; LatestRevisionNote: Stylized 3D Model Added.; DatasheetVersion: rev3.3, Oct-2003; PackageVersion: Dec-2003; PackageReference: PDIP16; Publisher: Altium Limited; PackageDescription: DIP; 16 Leads; Row Spacing 7.62 mm; Pitch 2.54 mm; ComponentLink1Description: Manufacturer Link; ComponentLink1URL: http://www.st.com/; ComponentLink2Description: Datasheet; ComponentLink2URL: http://www.st.com/stonline/products/literature/ds/4563/st6203c.pdf
footprint PDIP16 (DIP; 16 Leads; Row Spacing 7.62 mm; Pitch 2.54 mm)
3D model PDIP16 (DIP; 16 Leads; Row Spacing 7.62 mm; Pitch 2.54 mm)
pins: 1 VDD (power), 2 OSCIN (in), 3 OSCOUT (out), 4 NMI (in), 5 VPP (power), 6 ~{RESET} (in), 7 PB7 (io), 8 PB6 (io), 9 PB5 (io), 10 PB3 (io), 11 PB1 (io), 12 PB0 (io), 13 PA3/20mA SINK (io), 14 PA2/20mA SINK (io), 15 PA1/20mA SINK (io), 16 VSS (power)

## ST6203CB3
designator U?
8-Bit ROM MCU with A/D Converter, Two Timers, Oscillator Safeguard and Safe Reset, 16-Pin PDIP, Automotive; Published: 26-May-2004; LatestRevisionDate: 06-Jun-2005; LatestRevisionNote: Stylized 3D Model Added.; DatasheetVersion: rev3.3, Oct-2003; PackageVersion: Dec-2003; PackageReference: PDIP16; Publisher: Altium Limited; PackageDescription: DIP; 16 Leads; Row Spacing 7.62 mm; Pitch 2.54 mm; ComponentLink1Description: Manufacturer Link; ComponentLink1URL: http://www.st.com/; ComponentLink2Description: Datasheet; ComponentLink2URL: http://www.st.com/stonline/products/literature/ds/4563/st6203c.pdf
footprint PDIP16 (DIP; 16 Leads; Row Spacing 7.62 mm; Pitch 2.54 mm)
3D model PDIP16 (DIP; 16 Leads; Row Spacing 7.62 mm; Pitch 2.54 mm)
pins: 1 VDD (power), 2 OSCIN (in), 3 OSCOUT (out), 4 NMI (in), 5 VPP (power), 6 ~{RESET} (in), 7 PB7 (io), 8 PB6 (io), 9 PB5 (io), 10 PB3 (io), 11 PB1 (io), 12 PB0 (io), 13 PA3/20mA SINK (io), 14 PA2/20mA SINK (io), 15 PA1/20mA SINK (io), 16 VSS (power)

## ST6203CB6
designator U?
8-Bit ROM MCU with A/D Converter, Two Timers, Oscillator Safeguard and Safe Reset, 16-Pin PDIP, Industrial; Published: 26-May-2004; LatestRevisionDate: 06-Jun-2005; LatestRevisionNote: Stylized 3D Model Added.; DatasheetVersion: rev3.3, Oct-2003; PackageVersion: Dec-2003; PackageReference: PDIP16; Publisher: Altium Limited; PackageDescription: DIP; 16 Leads; Row Spacing 7.62 mm; Pitch 2.54 mm; ComponentLink1Description: Manufacturer Link; ComponentLink1URL: http://www.st.com/; ComponentLink2Description: Datasheet; ComponentLink2URL: http://www.st.com/stonline/products/literature/ds/4563/st6203c.pdf
footprint PDIP16 (DIP; 16 Leads; Row Spacing 7.62 mm; Pitch 2.54 mm)
3D model PDIP16 (DIP; 16 Leads; Row Spacing 7.62 mm; Pitch 2.54 mm)
pins: 1 VDD (power), 2 OSCIN (in), 3 OSCOUT (out), 4 NMI (in), 5 VPP (power), 6 ~{RESET} (in), 7 PB7 (io), 8 PB6 (io), 9 PB5 (io), 10 PB3 (io), 11 PB1 (io), 12 PB0 (io), 13 PA3/20mA SINK (io), 14 PA2/20mA SINK (io), 15 PA1/20mA SINK (io), 16 VSS (power)

## ST6203CM1
designator U?
8-Bit ROM MCU with A/D Converter, Two Timers, Oscillator Safeguard and Safe Reset, 16-Pin SOIC, Standard; Published: 26-May-2004; LatestRevisionDate: 13-Apr-2006; LatestRevisionNote: IPC-7351 Footprint Added.; DatasheetVersion: rev3.3, Oct-2003; PackageVersion: Apr-1998; PackageReference: SO16W; Publisher: Altium Limited; PackageDescription: 16-Pin Small Outline Integrated Circuit 1.27 mm Pitch; Code_JEDEC: MS-013-AA; Code_IPC: SOIC127P1030-16; ComponentLink1Description: Manufacturer Link; ComponentLink1URL: http://www.st.com/; ComponentLink2Description: Datasheet; ComponentLink2URL: http://www.st.com/stonline/products/literature/ds/4563/st6203c.pdf
footprint SO16W_N (SOIC, 16-Leads, Body 10.3x7.5mm, Pitch 1.27mm, IPC Medium Density)
footprint SO16W_L (SOIC, 16-Leads, Body 10.3x7.5mm, Pitch 1.27mm, IPC High Density)
footprint SO16W_M (SOIC, 16-Leads, Body 10.3x7.5mm, Pitch 1.27mm, IPC Low Density)
3D model SO16W (16-Pin Small Outline Integrated Circuit 1.27 mm Pitch)
pins: 1 VDD (power), 2 OSCIN (in), 3 OSCOUT (out), 4 NMI (in), 5 VPP (power), 6 ~{RESET} (in), 7 PB7 (io), 8 PB6 (io), 9 PB5 (io), 10 PB3 (io), 11 PB1 (io), 12 PB0 (io), 13 PA3/20mA SINK (io), 14 PA2/20mA SINK (io), 15 PA1/20mA SINK (io), 16 VSS (power)

## ST6203CM3
designator U?
8-Bit ROM MCU with A/D Converter, Two Timers, Oscillator Safeguard and Safe Reset, 16-Pin SOIC, Automotive; Published: 26-May-2004; LatestRevisionDate: 13-Apr-2006; LatestRevisionNote: IPC-7351 Footprint Added.; DatasheetVersion: rev3.3, Oct-2003; PackageVersion: Apr-1998; PackageReference: SO16W; Publisher: Altium Limited; PackageDescription: 16-Pin Small Outline Integrated Circuit 1.27 mm Pitch; Code_JEDEC: MS-013-AA; Code_IPC: SOIC127P1030-16; ComponentLink1Description: Manufacturer Link; ComponentLink1URL: http://www.st.com/; ComponentLink2Description: Datasheet; ComponentLink2URL: http://www.st.com/stonline/products/literature/ds/4563/st6203c.pdf
footprint SO16W_N (SOIC, 16-Leads, Body 10.3x7.5mm, Pitch 1.27mm, IPC Medium Density)
footprint SO16W_L (SOIC, 16-Leads, Body 10.3x7.5mm, Pitch 1.27mm, IPC High Density)
footprint SO16W_M (SOIC, 16-Leads, Body 10.3x7.5mm, Pitch 1.27mm, IPC Low Density)
3D model SO16W (16-Pin Small Outline Integrated Circuit 1.27 mm Pitch)
pins: 1 VDD (power), 2 OSCIN (in), 3 OSCOUT (out), 4 NMI (in), 5 VPP (power), 6 ~{RESET} (in), 7 PB7 (io), 8 PB6 (io), 9 PB5 (io), 10 PB3 (io), 11 PB1 (io), 12 PB0 (io), 13 PA3/20mA SINK (io), 14 PA2/20mA SINK (io), 15 PA1/20mA SINK (io), 16 VSS (power)

## ST6203CM6
designator U?
8-Bit ROM MCU with A/D Converter, Two Timers, Oscillator Safeguard and Safe Reset, 16-Pin SOIC, Industrial; Published: 26-May-2004; LatestRevisionDate: 13-Apr-2006; LatestRevisionNote: IPC-7351 Footprint Added.; DatasheetVersion: rev3.3, Oct-2003; PackageVersion: Apr-1998; PackageReference: SO16W; Publisher: Altium Limited; PackageDescription: 16-Pin Small Outline Integrated Circuit 1.27 mm Pitch; Code_JEDEC: MS-013-AA; Code_IPC: SOIC127P1030-16; ComponentLink1Description: Manufacturer Link; ComponentLink1URL: http://www.st.com/; ComponentLink2Description: Datasheet; ComponentLink2URL: http://www.st.com/stonline/products/literature/ds/4563/st6203c.pdf
footprint SO16W_N (SOIC, 16-Leads, Body 10.3x7.5mm, Pitch 1.27mm, IPC Medium Density)
footprint SO16W_L (SOIC, 16-Leads, Body 10.3x7.5mm, Pitch 1.27mm, IPC High Density)
footprint SO16W_M (SOIC, 16-Leads, Body 10.3x7.5mm, Pitch 1.27mm, IPC Low Density)
3D model SO16W (16-Pin Small Outline Integrated Circuit 1.27 mm Pitch)
pins: 1 VDD (power), 2 OSCIN (in), 3 OSCOUT (out), 4 NMI (in), 5 VPP (power), 6 ~{RESET} (in), 7 PB7 (io), 8 PB6 (io), 9 PB5 (io), 10 PB3 (io), 11 PB1 (io), 12 PB0 (io), 13 PA3/20mA SINK (io), 14 PA2/20mA SINK (io), 15 PA1/20mA SINK (io), 16 VSS (power)

## ST6208BB1
designator U?
8-Bit HCMOS MCU; Published: 24-Aug-2001; LatestRevisionDate: 06-Jun-2005; LatestRevisionNote: Stylized 3D Model Added.; DatasheetVersion: Oct-1996; PackageVersion: Jun-1998; PackageReference: DIP20; Publisher: Altium Limited; PackageDescription: DIP; 20 Leads; Row Spacing 7.62 mm; Pitch 2.54 mm; Code_JEDEC: MS-015-AE; ComponentLink1Description: Manufacturer Link; ComponentLink1URL: http://www.st.com/
footprint DIP20 (DIP; 20 Leads; Row Spacing 7.62 mm; Pitch 2.54 mm)
3D model DIP20 (DIP; 20 Leads; Row Spacing 7.62 mm; Pitch 2.54 mm)
pins: 1 VDD (power), 2 TIMER (io), 3 OSCIN (in), 4 OSCOUT (out), 5 NMI (in), 6 VPP (power), 7 ~{RESET} (in), 8 PB7 (io), 9 PB6 (io), 10 PB5 (io), 11 PB4 (io), 12 PB3 (io), 13 PB2 (io), 14 PB1 (io), 15 PB0 (io), 16 PA3/20mA SINK (io), 17 PA2/20mA SINK (io), 18 PA1/20mA SINK (io), 19 PA0/20mA SINK (io), 20 VSS (power)

## ST6208BB6
designator U?
8-Bit HCMOS MCU; Published: 24-Aug-2001; LatestRevisionDate: 06-Jun-2005; LatestRevisionNote: Stylized 3D Model Added.; DatasheetVersion: Oct-1996; PackageVersion: Jun-1998; PackageReference: DIP20; Publisher: Altium Limited; PackageDescription: DIP; 20 Leads; Row Spacing 7.62 mm; Pitch 2.54 mm; Code_JEDEC: MS-015-AE; ComponentLink1Description: Manufacturer Link; ComponentLink1URL: http://www.st.com/
footprint DIP20 (DIP; 20 Leads; Row Spacing 7.62 mm; Pitch 2.54 mm)
3D model DIP20 (DIP; 20 Leads; Row Spacing 7.62 mm; Pitch 2.54 mm)
pins: 1 VDD (power), 2 TIMER (io), 3 OSCIN (in), 4 OSCOUT (out), 5 NMI (in), 6 VPP (power), 7 ~{RESET} (in), 8 PB7 (io), 9 PB6 (io), 10 PB5 (io), 11 PB4 (io), 12 PB3 (io), 13 PB2 (io), 14 PB1 (io), 15 PB0 (io), 16 PA3/20mA SINK (io), 17 PA2/20mA SINK (io), 18 PA1/20mA SINK (io), 19 PA0/20mA SINK (io), 20 VSS (power)

## ST6208BM1
designator U?
8-Bit HCMOS MCU; Published: 24-Aug-2001; LatestRevisionDate: 13-Apr-2006; LatestRevisionNote: IPC-7351 Footprint Added.; DatasheetVersion: Oct-1996; PackageVersion: Jul-2001; PackageReference: SO20; Publisher: Altium Limited; PackageDescription: 20-Pin Plastic Small Outline Integrated Circuit 1.27 mm Pitch; Code_JEDEC: MS-013-AC; Code_IPC: SOIC127P1030-20; ComponentLink1Description: Manufacturer Link; ComponentLink1URL: http://www.st.com/
footprint SO20_N (SOIC, 20-Leads, Body 12.8x7.5mm, Pitch 1.27mm, IPC Medium Density)
footprint SO20_L (SOIC, 20-Leads, Body 12.8x7.5mm, Pitch 1.27mm, IPC High Density)
footprint SO20_M (SOIC, 20-Leads, Body 12.8x7.5mm, Pitch 1.27mm, IPC Low Density)
3D model SO20 (20-Pin Plastic Small Outline Integrated Circuit 1.27 mm Pitch)
pins: 1 VDD (power), 2 TIMER (io), 3 OSCIN (in), 4 OSCOUT (out), 5 NMI (in), 6 VPP (power), 7 ~{RESET} (in), 8 PB7 (io), 9 PB6 (io), 10 PB5 (io), 11 PB4 (io), 12 PB3 (io), 13 PB2 (io), 14 PB1 (io), 15 PB0 (io), 16 PA3/20mA SINK (io), 17 PA2/20mA SINK (io), 18 PA1/20mA SINK (io), 19 PA0/20mA SINK (io), 20 VSS (power)

## ST6208BM6
designator U?
8-Bit HCMOS MCU; Published: 24-Aug-2001; LatestRevisionDate: 13-Apr-2006; LatestRevisionNote: IPC-7351 Footprint Added.; DatasheetVersion: Oct-1996; PackageVersion: Jul-2001; PackageReference: SO20; Publisher: Altium Limited; PackageDescription: 20-Pin Plastic Small Outline Integrated Circuit 1.27 mm Pitch; Code_JEDEC: MS-013-AC; Code_IPC: SOIC127P1030-20; ComponentLink1Description: Manufacturer Link; ComponentLink1URL: http://www.st.com/
footprint SO20_N (SOIC, 20-Leads, Body 12.8x7.5mm, Pitch 1.27mm, IPC Medium Density)
footprint SO20_L (SOIC, 20-Leads, Body 12.8x7.5mm, Pitch 1.27mm, IPC High Density)
footprint SO20_M (SOIC, 20-Leads, Body 12.8x7.5mm, Pitch 1.27mm, IPC Low Density)
3D model SO20 (20-Pin Plastic Small Outline Integrated Circuit 1.27 mm Pitch)
pins: 1 VDD (power), 2 TIMER (io), 3 OSCIN (in), 4 OSCOUT (out), 5 NMI (in), 6 VPP (power), 7 ~{RESET} (in), 8 PB7 (io), 9 PB6 (io), 10 PB5 (io), 11 PB4 (io), 12 PB3 (io), 13 PB2 (io), 14 PB1 (io), 15 PB0 (io), 16 PA3/20mA SINK (io), 17 PA2/20mA SINK (io), 18 PA1/20mA SINK (io), 19 PA0/20mA SINK (io), 20 VSS (power)

## ST6208CB1
designator U?
8-Bit ROM MCU with A/D Converter, Two Timers, Oscillator Safeguard and Safe Reset, 20-Pin PDIP, Standard; Published: 26-May-2004; LatestRevisionDate: 06-Jun-2005; LatestRevisionNote: Stylized 3D Model Added.; DatasheetVersion: rev3.3, Oct-2003; PackageVersion: Jul-2003; PackageReference: PDIP20; Publisher: Altium Limited; PackageDescription: DIP; 20 Leads; Row Spacing 7.62 mm; Pitch 2.54 mm; Code_JEDEC: MS-001-AD; ComponentLink1Description: Manufacturer Link; ComponentLink1URL: http://www.st.com/; ComponentLink2Description: Datasheet; ComponentLink2URL: http://www.st.com/stonline/products/literature/ds/2349/st6208c.pdf
footprint PDIP20 (DIP; 20 Leads; Row Spacing 7.62 mm; Pitch 2.54 mm)
3D model PDIP20 (DIP; 20 Leads; Row Spacing 7.62 mm; Pitch 2.54 mm)
pins: 1 VDD (power), 2 TIMER (io), 3 OSCIN (in), 4 OSCOUT (out), 5 NMI (in), 6 VPP (power), 7 ~{RESET} (in), 8 PB7 (io), 9 PB6 (io), 10 PB5 (io), 11 PB4 (io), 12 PB3 (io), 13 PB2 (io), 14 PB1 (io), 15 PB0 (io), 16 PA3/20mA SINK (io), 17 PA2/20mA SINK (io), 18 PA1/20mA SINK (io), 19 PA0/20mA SINK (io), 20 VSS (power)

## ST6208CB3
designator U?
8-Bit ROM MCU with A/D Converter, Two Timers, Oscillator Safeguard and Safe Reset, 20-Pin PDIP, Automotive; Published: 26-May-2004; LatestRevisionDate: 06-Jun-2005; LatestRevisionNote: Stylized 3D Model Added.; DatasheetVersion: rev3.3, Oct-2003; PackageVersion: Jul-2003; PackageReference: PDIP20; Publisher: Altium Limited; PackageDescription: DIP; 20 Leads; Row Spacing 7.62 mm; Pitch 2.54 mm; Code_JEDEC: MS-001-AD; ComponentLink1Description: Manufacturer Link; ComponentLink1URL: http://www.st.com/; ComponentLink2Description: Datasheet; ComponentLink2URL: http://www.st.com/stonline/products/literature/ds/2349/st6208c.pdf
footprint PDIP20 (DIP; 20 Leads; Row Spacing 7.62 mm; Pitch 2.54 mm)
3D model PDIP20 (DIP; 20 Leads; Row Spacing 7.62 mm; Pitch 2.54 mm)
pins: 1 VDD (power), 2 TIMER (io), 3 OSCIN (in), 4 OSCOUT (out), 5 NMI (in), 6 VPP (power), 7 ~{RESET} (in), 8 PB7 (io), 9 PB6 (io), 10 PB5 (io), 11 PB4 (io), 12 PB3 (io), 13 PB2 (io), 14 PB1 (io), 15 PB0 (io), 16 PA3/20mA SINK (io), 17 PA2/20mA SINK (io), 18 PA1/20mA SINK (io), 19 PA0/20mA SINK (io), 20 VSS (power)

## ST6208CB6
designator U?
8-Bit ROM MCU with A/D Converter, Two Timers, Oscillator Safeguard and Safe Reset, 20-Pin PDIP, Industrial; Published: 26-May-2004; LatestRevisionDate: 06-Jun-2005; LatestRevisionNote: Stylized 3D Model Added.; DatasheetVersion: rev3.3, Oct-2003; PackageVersion: Jul-2003; PackageReference: PDIP20; Publisher: Altium Limited; PackageDescription: DIP; 20 Leads; Row Spacing 7.62 mm; Pitch 2.54 mm; Code_JEDEC: MS-001-AD; ComponentLink1Description: Manufacturer Link; ComponentLink1URL: http://www.st.com/; ComponentLink2Description: Datasheet; ComponentLink2URL: http://www.st.com/stonline/products/literature/ds/2349/st6208c.pdf
footprint PDIP20 (DIP; 20 Leads; Row Spacing 7.62 mm; Pitch 2.54 mm)
3D model PDIP20 (DIP; 20 Leads; Row Spacing 7.62 mm; Pitch 2.54 mm)
pins: 1 VDD (power), 2 TIMER (io), 3 OSCIN (in), 4 OSCOUT (out), 5 NMI (in), 6 VPP (power), 7 ~{RESET} (in), 8 PB7 (io), 9 PB6 (io), 10 PB5 (io), 11 PB4 (io), 12 PB3 (io), 13 PB2 (io), 14 PB1 (io), 15 PB0 (io), 16 PA3/20mA SINK (io), 17 PA2/20mA SINK (io), 18 PA1/20mA SINK (io), 19 PA0/20mA SINK (io), 20 VSS (power)

## ST6208CM1
designator U?
8-Bit ROM MCU with A/D Converter, Two Timers, Oscillator Safeguard and Safe Reset, 20-Pin SOIC, Standard; Published: 26-May-2004; LatestRevisionDate: 13-Apr-2006; LatestRevisionNote: IPC-7351 Footprint Added.; DatasheetVersion: rev3.3, Oct-2003; PackageVersion: Jul-2001; PackageReference: SO20; Publisher: Altium Limited; PackageDescription: 20-Pin Plastic Small Outline Integrated Circuit 1.27 mm Pitch; Code_JEDEC: MS-013-AC; Code_IPC: SOIC127P1030-20; ComponentLink1Description: Manufacturer Link; ComponentLink1URL: http://www.st.com/; ComponentLink2Description: Datasheet; ComponentLink2URL: http://www.st.com/stonline/products/literature/ds/2349/st6208c.pdf
footprint SO20_N (SOIC, 20-Leads, Body 12.8x7.5mm, Pitch 1.27mm, IPC Medium Density)
footprint SO20_L (SOIC, 20-Leads, Body 12.8x7.5mm, Pitch 1.27mm, IPC High Density)
footprint SO20_M (SOIC, 20-Leads, Body 12.8x7.5mm, Pitch 1.27mm, IPC Low Density)
3D model SO20 (20-Pin Plastic Small Outline Integrated Circuit 1.27 mm Pitch)
pins: 1 VDD (power), 2 TIMER (io), 3 OSCIN (in), 4 OSCOUT (out), 5 NMI (in), 6 VPP (power), 7 ~{RESET} (in), 8 PB7 (io), 9 PB6 (io), 10 PB5 (io), 11 PB4 (io), 12 PB3 (io), 13 PB2 (io), 14 PB1 (io), 15 PB0 (io), 16 PA3/20mA SINK (io), 17 PA2/20mA SINK (io), 18 PA1/20mA SINK (io), 19 PA0/20mA SINK (io), 20 VSS (power)

## ST6208CM3
designator U?
8-Bit ROM MCU with A/D Converter, Two Timers, Oscillator Safeguard and Safe Reset, 20-Pin SOIC, Automotive; Published: 26-May-2004; LatestRevisionDate: 13-Apr-2006; LatestRevisionNote: IPC-7351 Footprint Added.; DatasheetVersion: rev3.3, Oct-2003; PackageVersion: Jul-2001; PackageReference: SO20; Publisher: Altium Limited; PackageDescription: 20-Pin Plastic Small Outline Integrated Circuit 1.27 mm Pitch; Code_JEDEC: MS-013-AC; Code_IPC: SOIC127P1030-20; ComponentLink1Description: Manufacturer Link; ComponentLink1URL: http://www.st.com/; ComponentLink2Description: Datasheet; ComponentLink2URL: http://www.st.com/stonline/products/literature/ds/2349/st6208c.pdf
footprint SO20_N (SOIC, 20-Leads, Body 12.8x7.5mm, Pitch 1.27mm, IPC Medium Density)
footprint SO20_L (SOIC, 20-Leads, Body 12.8x7.5mm, Pitch 1.27mm, IPC High Density)
footprint SO20_M (SOIC, 20-Leads, Body 12.8x7.5mm, Pitch 1.27mm, IPC Low Density)
3D model SO20 (20-Pin Plastic Small Outline Integrated Circuit 1.27 mm Pitch)
pins: 1 VDD (power), 2 TIMER (io), 3 OSCIN (in), 4 OSCOUT (out), 5 NMI (in), 6 VPP (power), 7 ~{RESET} (in), 8 PB7 (io), 9 PB6 (io), 10 PB5 (io), 11 PB4 (io), 12 PB3 (io), 13 PB2 (io), 14 PB1 (io), 15 PB0 (io), 16 PA3/20mA SINK (io), 17 PA2/20mA SINK (io), 18 PA1/20mA SINK (io), 19 PA0/20mA SINK (io), 20 VSS (power)

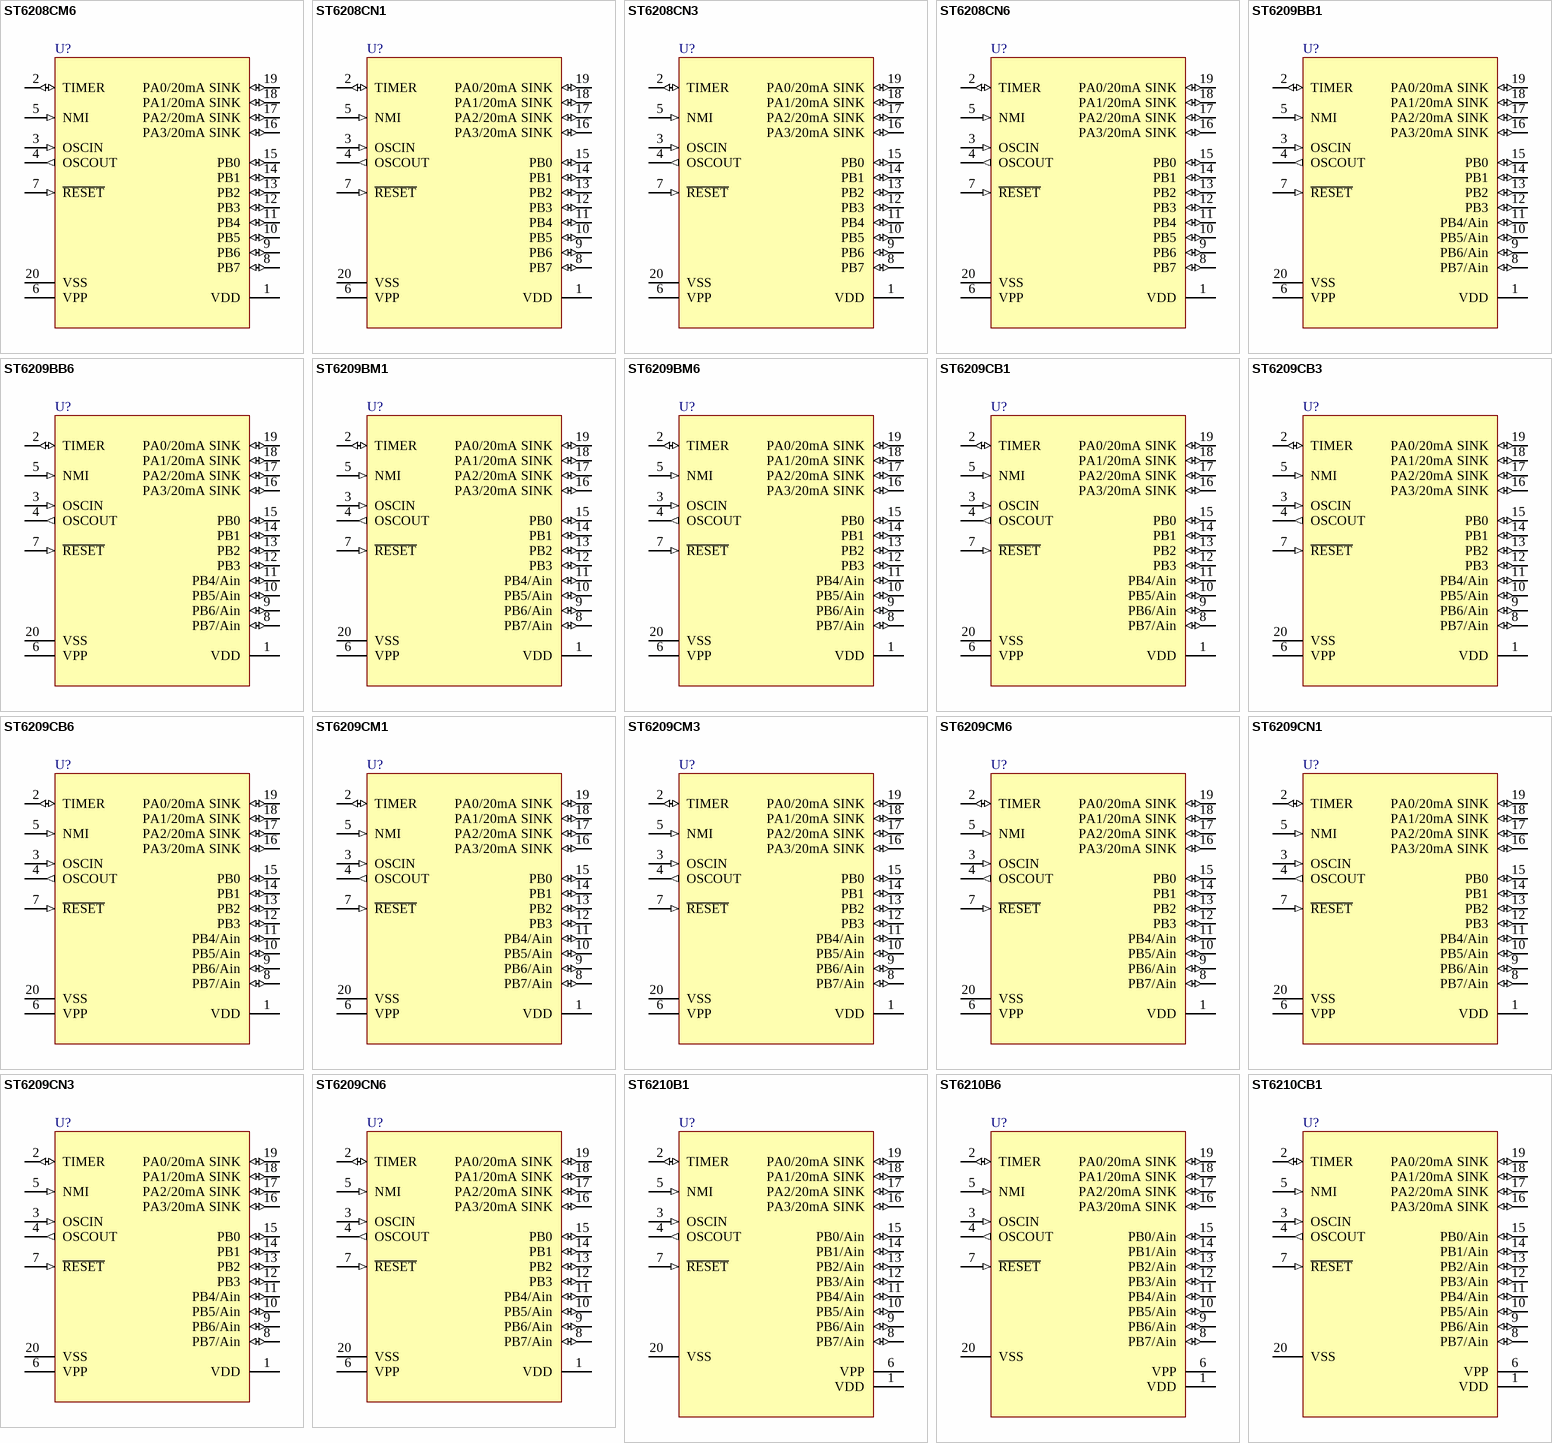
[diagram p79: symbols ST6208CM6 to ST6210CB1]

## ST6208CM6
designator U?
8-Bit ROM MCU with A/D Converter, Two Timers, Oscillator Safeguard and Safe Reset, 20-Pin SOIC, Industrial; Published: 26-May-2004; LatestRevisionDate: 13-Apr-2006; LatestRevisionNote: IPC-7351 Footprint Added.; DatasheetVersion: rev3.3, Oct-2003; PackageVersion: Jul-2001; PackageReference: SO20; Publisher: Altium Limited; PackageDescription: 20-Pin Plastic Small Outline Integrated Circuit 1.27 mm Pitch; Code_JEDEC: MS-013-AC; Code_IPC: SOIC127P1030-20; ComponentLink1Description: Manufacturer Link; ComponentLink1URL: http://www.st.com/; ComponentLink2Description: Datasheet; ComponentLink2URL: http://www.st.com/stonline/products/literature/ds/2349/st6208c.pdf
footprint SO20_N (SOIC, 20-Leads, Body 12.8x7.5mm, Pitch 1.27mm, IPC Medium Density)
footprint SO20_L (SOIC, 20-Leads, Body 12.8x7.5mm, Pitch 1.27mm, IPC High Density)
footprint SO20_M (SOIC, 20-Leads, Body 12.8x7.5mm, Pitch 1.27mm, IPC Low Density)
3D model SO20 (20-Pin Plastic Small Outline Integrated Circuit 1.27 mm Pitch)
pins: 1 VDD (power), 2 TIMER (io), 3 OSCIN (in), 4 OSCOUT (out), 5 NMI (in), 6 VPP (power), 7 ~{RESET} (in), 8 PB7 (io), 9 PB6 (io), 10 PB5 (io), 11 PB4 (io), 12 PB3 (io), 13 PB2 (io), 14 PB1 (io), 15 PB0 (io), 16 PA3/20mA SINK (io), 17 PA2/20mA SINK (io), 18 PA1/20mA SINK (io), 19 PA0/20mA SINK (io), 20 VSS (power)